# Altium schematic symbol library LTC6409IUDB#TRMPBF.SchLib: 1 symbol
Pins are listed as number, name and electrical type; pins without a type are passive.

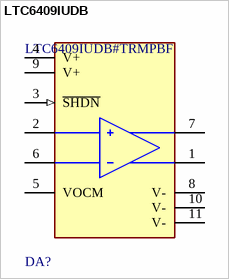
[diagram p0: symbol LTC6409IUDB]

## LTC6409IUDB
designator DA?, comment LTC6409IUDB#TRMPBF
IC ADC DRIVER 10QFN; Max Supply Voltage: 5.25V; Min Supply Voltage: 2.7V; Common Mode Rejection Ratio: 55dB; Number of Amplifiers: 1; Bandwidth: 10GHz; Input Offset Voltage (Vos): 300uV; Slew Rate: 3300V/µs; REACH SVHC: No SVHC; Series: -; Min Operating Temperature: -40°C; Max Operating Temperature: 85°C; RoHS Compliant: Yes; Package Quantity: 500; Packaging: Tape and Reel; Lead Free: Lead Free; Number of Pins: 10; Number of Elements: 1; Power Supply Rejection Ratio (PSRR): 55dB; Number of Channels: 1; Nominal Gain Bandwidth Product: 10GHz; Case/Package: QFN
footprint FP-UDB-10-05-08-1848-MFG
pins: 1 -OUT, 2 +IN (hiz), 3 ~{SHDN} (in), 4 V+ (power), 5 VOCM, 6 -IN (hiz), 7 +OUT, 8 V- (power), 9 V+ (power), 10 V- (power), 11 V- (power)